# EAGLE library part ECEN5517_INDUCTOR (library m_inductor)
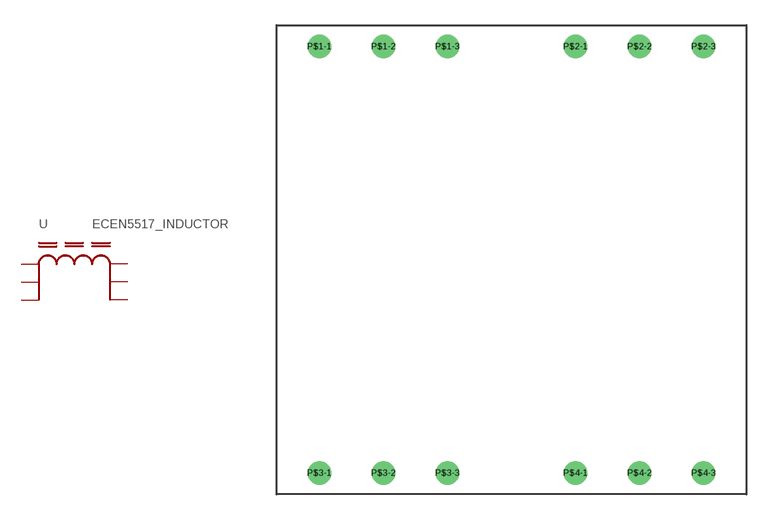
[diagram p1: symbol with the pads of PQ26/25; footprint PQ26/25]

Designator prefix -

## ECEN5517_INDUCTOR  [PQ26/25]
P$1-1  P$1  pas
P$1-2  P$2  pas
P$1-3  P$3  pas
P$2-1  P$4  pas
P$2-2  P$5  pas
P$2-3  P$6  pas

## Footprint PQ26/25 (pad centres in mm)
drill 0.889: P$1-1 -11.43,12.7; P$1-2 -7.62,12.7; P$1-3 -3.81,12.7; P$2-1 3.81,12.7; P$2-2 7.62,12.7; P$2-3 11.43,12.7; P$3-1 -11.43,-12.7; P$3-2 -7.62,-12.7; P$3-3 -3.81,-12.7; P$4-1 3.81,-12.7; P$4-2 7.62,-12.7; P$4-3 11.43,-12.7